# Altium integrated library MEM2080-00-128-00-A_REVA.IntLib: 1 symbol
Pins are listed as number, name and electrical type; pins without a type are passive.

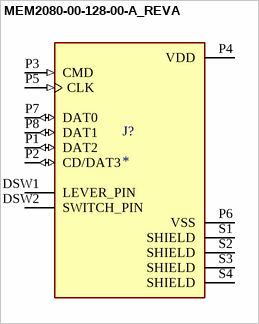
[diagram p0: symbol MEM2080-00-128-00-A_REVA]

## MEM2080-00-128-00-A_REVA
designator J?
9 (8 + 1) Position Card Connector Secure Digital - microSDâ„¢ Surface Mount, Right Angle Gold; MP: MEM2080-00-128-00-A; MF: Global Connector Technology; Check_prices: https://www.snapeda.com/parts/MEM2080-00-128-00-A/Global+Connector+Technology/view-part/?ref=eda; Value: *; Availability: In Stock; Price: None; Package: None; SnapEDA_Link: https://www.snapeda.com/parts/MEM2080-00-128-00-A/Global+Connector+Technology/view-part/?ref=snap; Purchase-URL: https://pricing.snapeda.com/search/part/MEM2080-00-128-00-A/?ref=eda
footprint GCT_MEM2080-00-128-00-A_REVA
pins: DSW1 LEVER_PIN, DSW2 SWITCH_PIN, P1 DAT2 (io), P2 CD/DAT3 (io), P3 CMD (in), P4 VDD (power), P5 CLK (in), P6 VSS (power), P7 DAT0 (io), P8 DAT1 (io), S1 SHIELD, S2 SHIELD, S3 SHIELD, S4 SHIELD